# EAGLE library part NIS5452 (library qset_lib)
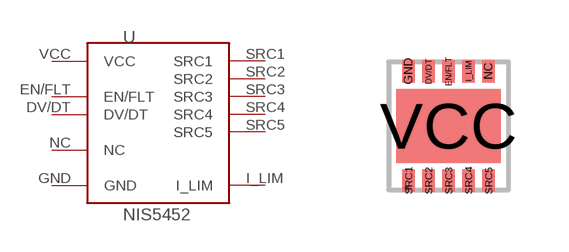
[diagram p0: symbol with the pads of WDFN10; footprint WDFN10]

Designator prefix -

## NIS5452  [WDFN10]
DV/DT  DV/DT
EN/FLT  EN/FLT
GND  GND  pwr
I_LIM  I_LIM
NC  NC  nc
SRC1  SRC1  out
SRC2  SRC2  out
SRC3  SRC3  out
SRC4  SRC4  out
SRC5  SRC5  out
VCC  VCC  pwr

## Footprint WDFN10 (pad centres in mm)
smd 0.301 x 0.565: DV/DT -0.5,1.37; EN/FLT 0,1.37; GND -1,1.37; I_LIM 0.5,1.37; NC 1,1.37; SRC1 -1,-1.37; SRC2 -0.5,-1.37; SRC3 0,-1.37; SRC4 0.5,-1.37; SRC5 1,-1.37
smd 2.602 x 1.851: VCC 0,0